# EAGLE library part ATLAS-MODULE (library Skoba)
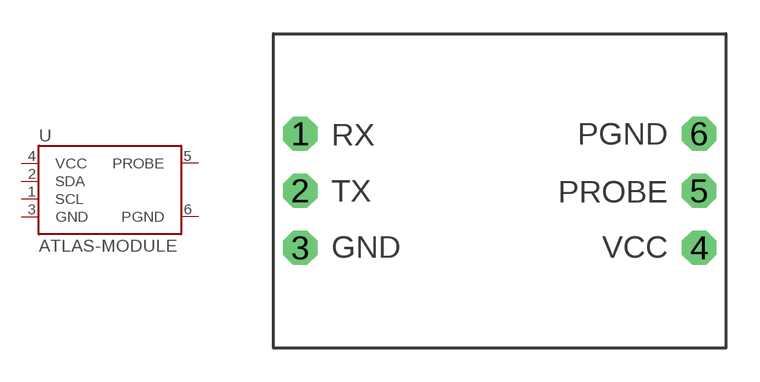
[diagram p5: symbol with the pads of ATLAS-MODULE; footprint ATLAS-MODULE]

Designator prefix U

## ATLAS-MODULE  [ATLAS-MODULE]
1  SCL
2  SDA
3  GND
4  VCC
5  PROBE
6  PGND

## Footprint ATLAS-MODULE (pad centres in mm)
drill 1.016 octagon: 1 -8.89,2.54; 2 -8.89,0; 3 -8.89,-2.54; 4 8.89,-2.54; 5 8.89,0; 6 8.89,2.54